# EAGLE library part HCPL-0631-000E (library jason-test)
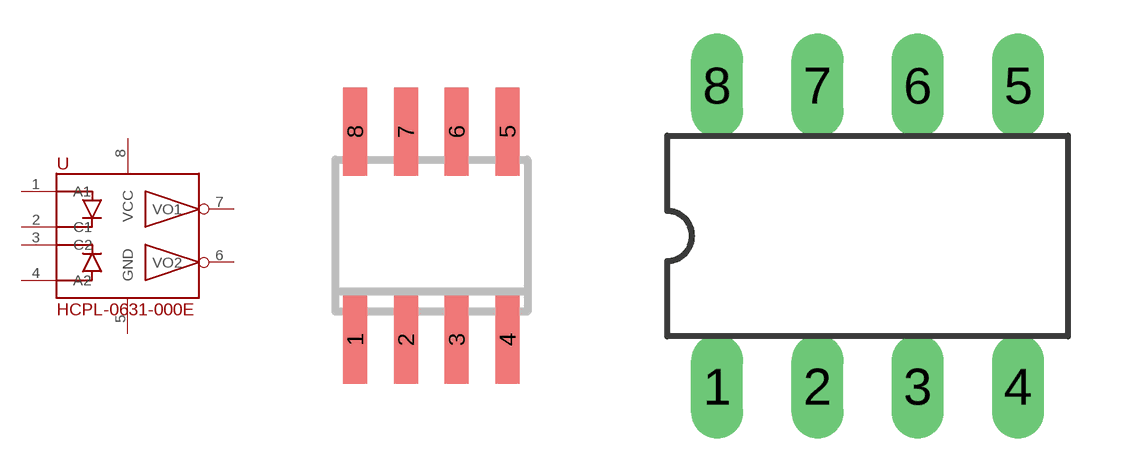
[diagram p32: symbol with the pads of SO-08; footprints SO-08, DIL8]

Designator prefix -

## HCPL-0631-000ESMT  [SO-08]
1  A1  in
2  C1  in
3  C2  in
4  A2  in
5  GND  pwr
6  VO2  out
7  VO1  out
8  VCC  pwr

## HCPL-0631-000EDIL  [DIL8]
Pads as for SO-08

## HCPL-0631-000ESDIL  [DIL8-SMD]
Pads as for SO-08

## Footprint SO-08 (pad centres in mm)
Small Outline Narrow Plastic Gull Wing 150-mil body, package type SN
smd 0.6 x 2.2: 1 -1.905,-2.6; 2 -0.635,-2.6; 3 0.635,-2.6; 4 1.905,-2.6; 5 1.905,2.6; 6 0.635,2.6; 7 -0.635,2.6; 8 -1.905,2.6

## Footprint DIL8 (pad centres in mm)
Dual In Line package type P
drill 0.813 long: 1 -3.81,-3.81; 2 -1.27,-3.81; 3 1.27,-3.81; 4 3.81,-3.81; 5 3.81,3.81; 6 1.27,3.81; 7 -1.27,3.81; 8 -3.81,3.81

## Footprint DIL8-SMD (pad centres in mm)
smd 1 x 1.5: 1 -4.763,3.81; 2 -4.763,1.27; 3 -4.763,-1.27; 4 -4.763,-3.81; 5 4.763,-3.81; 6 4.763,-1.27; 7 4.763,1.27; 8 4.763,3.81